# EAGLE library part ADS1210 (library texas1)
24-Bit ANALOG-TO-DIGITAL CONVERTER Source: http://focus.ti.com/lit/ds/symlink/ads1210.pdf
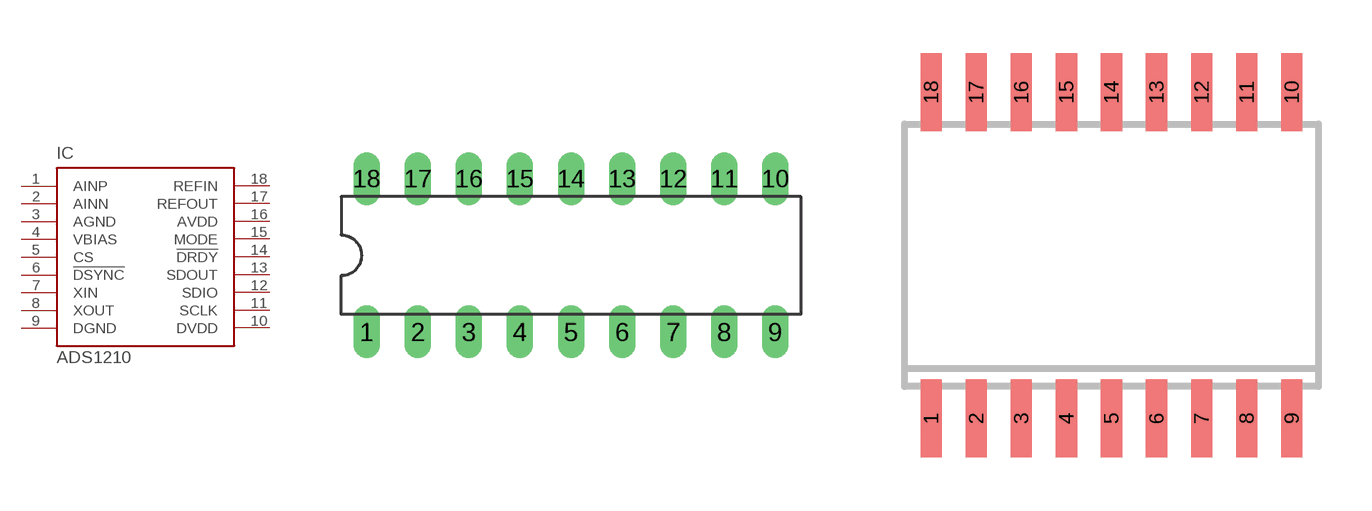
[diagram p81: symbol with the pads of DIL18; footprints DIL18, SO-18DW]

Designator prefix IC

## ADS1210P (MF: TEXAS INSTRUMENTS; MPN: ADS1210P; OC_FARNELL: 1312336; OC_NEWARK: 96K4580)  [DIL18]
1  AINP  in
2  AINN  in
3  AGND  pwr
4  VBIAS  in
5  CS  in
6  !DSYNC  in
7  XIN  in
8  XOUT  out
9  DGND  pwr
10  DVDD  pwr
11  SCLK
12  SDIO
13  SDOUT  out
14  !DRDY  out
15  MODE  in
16  AVDD  pwr
17  REFOUT  out
18  REFIN  in

## ADS1210U (MF: TEXAS INSTRUMENTS; MPN: ADS1210U; OC_FARNELL: 1295983; OC_NEWARK: 74K3627)  [SO-18DW]
Pads as for DIL18

## Footprint DIL18 (pad centres in mm)
Dual In Line Package
drill 0.813 long: 1 -10.16,-3.81; 2 -7.62,-3.81; 3 -5.08,-3.81; 4 -2.54,-3.81; 5 0,-3.81; 6 2.54,-3.81; 7 5.08,-3.81; 8 7.62,-3.81; 9 10.16,-3.81; 10 10.16,3.81; 11 7.62,3.81; 12 5.08,3.81; 13 2.54,3.81; 14 0,3.81; 15 -2.54,3.81; 16 -5.08,3.81; 17 -7.62,3.81; 18 -10.16,3.81

## Footprint SO-18DW (pad centres in mm)
Small Outline Integrated Circuit wide
smd 0.6 x 2.2: 1 -5.08,-4.6; 2 -3.81,-4.6; 3 -2.54,-4.6; 4 -1.27,-4.6; 5 0,-4.6; 6 1.27,-4.6; 7 2.54,-4.6; 8 3.81,-4.6; 9 5.08,-4.6; 10 5.08,4.6; 11 3.81,4.6; 12 2.54,4.6; 13 1.27,4.6; 14 0,4.6; 15 -1.27,4.6; 16 -2.54,4.6; 17 -3.81,4.6; 18 -5.08,4.6